# Altium schematic symbol library Switches.SchLib: 17 symbols
Pins are listed as number, name and electrical type; pins without a type are passive.

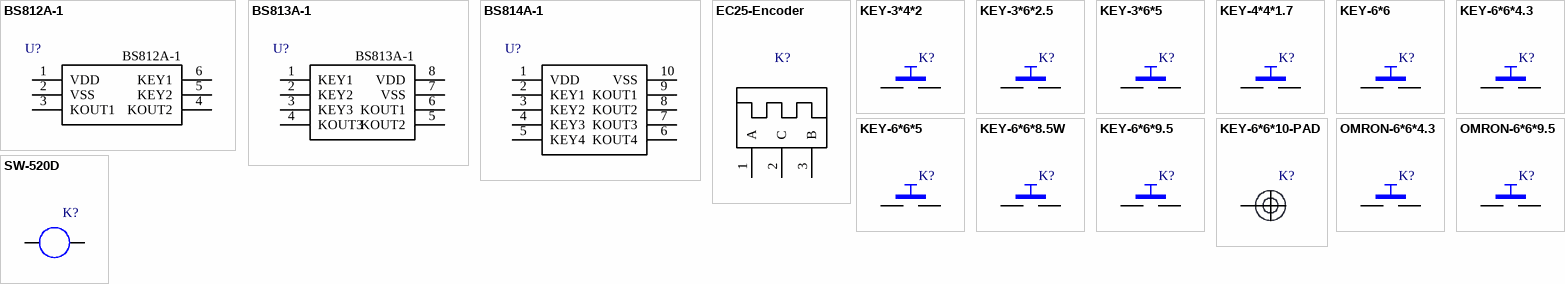
[diagram p0: symbols BS812A-1 to SW-520D]

## BS812A-1
designator U?
Manufacture: HOLTEK; Size: SOT23-6; Mount type: SMT; Global part number: BS812A-1; Value: BS812A-1
footprint SOT23-6
pins: 1 VDD, 2 VSS, 3 KOUT1, 4 KOUT2, 5 KEY2, 6 KEY1

## BS813A-1
designator U?
Manufacture: HOLTEK; Global part number: BS813A-1; Mount type: SMT; Size: SOIC-8; Value: BS813A-1
footprint SOIC-8
pins: 1 KEY1, 2 KEY2, 3 KEY3, 4 KOUT3, 5 KOUT2, 6 KOUT1, 7 VSS, 8 VDD

## BS814A-1
designator U?
Manufacture: HOLTEK; Global part number: BS814A-1; Mount type: SMT; Size: MSOP-10
footprint MSOP-10
pins: 1 VDD, 2 KEY1, 3 KEY2, 4 KEY3, 5 KEY4, 6 KOUT4, 7 KOUT3, 8 KOUT2, 9 KOUT1, 10 VSS

## EC25-Encoder
designator K?
Push-Button Switch SPDT
pins: 1 A, 2 C, 3 B

## KEY-3*4*2
designator K?
Push-Button Switch SPDT; Size: 3*4*2
footprint 3*4*2K
pins: 1, 2

## KEY-3*6*2.5
designator K?
Push-Button Switch SPDT; Size: 3*6*2.5
footprint 3*6*2.5K
pins: 1, 2

## KEY-3*6*5
designator K?
Push-Button Switch SPDT; Size: 3*6*5
footprint 3*6*5K
pins: 1, 2

## KEY-4*4*1.7
designator K?
Push-Button Switch SPDT; Size: 4*4*1.7
footprint 4*4*1.7K
pins: 1, 2, 3, 4

## KEY-6*6
designator K?
Push-Button Switch SPDT; Size: 6*6*4.3
footprint 6*6*4.3K-DIP2
pins: 1, 2

## KEY-6*6*4.3
designator K?
Push-Button Switch SPDT; Size: 6*6*4.3
footprint 6*6*4.3K-SMT4
footprint 6*6*4.3K-DIP4
footprint 6*6*4.3K-DIP2
pins: 1, 2, 3, 4

## KEY-6*6*5
designator K?
Push-Button Switch SPDT; Size: 6*6*5
footprint 6*6*5K
pins: 1, 2

## KEY-6*6*8.5W
designator K?
Push-Button Switch SPDT; Size: 6*6*8.5
footprint 6*6*8.5W-DIP4
pins: 1, 2

## KEY-6*6*9.5
designator K?
Push-Button Switch SPDT; Size: 6*6.4.3
footprint 6*6*9.5K-SMT4
footprint 6*6*9.5K-DIP4
pins: 1, 2, 3, 4

## KEY-6*6*10-PAD
designator K?
Push-Button Switch SPDT; Size: 3*4*2
footprint KEY-PAD-1
pins: 1 A

## OMRON-6*6*4.3
designator K?
Push-Button Switch SPDT; Manufacture: OMRON; Size: 6*6*4.3
footprint 6*6*4.3K-SMT4
footprint 6*6*4.3K-DIP4
footprint 6*6*4.3K-DIP2
pins: 1, 2, 3, 4

## OMRON-6*6*9.5
designator K?
Push-Button Switch SPDT; Manufacture: OMRON; Size: 6*6*4.3
footprint 6*6*9.5K-SMT4
footprint 6*6*9.5K-DIP4
pins: 1, 2, 3, 4

## SW-520D
designator K?
Size: 3*4*2
footprint SW-520D
pins: 1, 2